# Altium schematic symbol library SAMTEC-A-TSM-102-02-L-SH.SCHLIB: 1 symbol
Pins are listed as number, name and electrical type; pins without a type are passive.

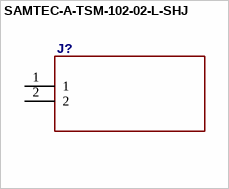
[diagram p0: symbol SAMTEC-A-TSM-102-02-L-SHJ]

## SAMTEC-A-TSM-102-02-L-SHJ
designator J?
footprint SAMTEC-A-TSM-102-02-L-SH
pins: 1, 2